# Altium footprint library TPS53313.PcbLib: 1 footprints
Each footprint in its own frame and in the unit in brackets; x right, y up, seen from the top. Pads: shape width x height; smd on the part's side, far side on the other; paste and mask are expansions set on the pad; w line width, h text height; cw(c..) or ccw(c..) is an arc to the next point about the centre after c.
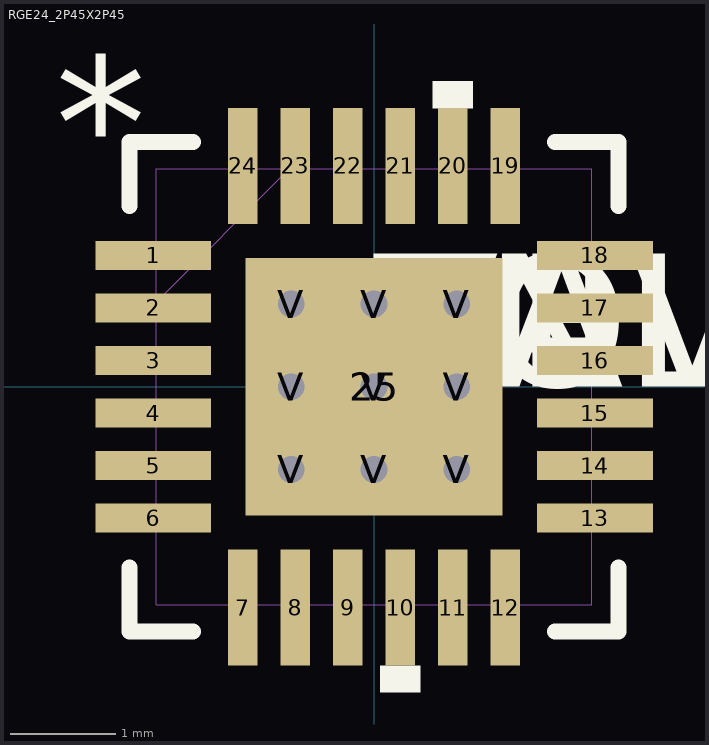
[diagram p0: the footprint, top view; thin cyan lines are the x and y axes]

## RGE24_2P45X2P45 [mil]
pads (34):
  rect 43.47x11.02 smd paste-5.51: 1(-82.76,49.21) 2(-82.76,29.53) 3(-82.76,9.84) 4(-82.76,-9.84) 5(-82.76,-29.53) 6(-82.76,-49.21) 13(82.76,-49.21) 14(82.76,-29.53) 15(82.76,-9.84) 16(82.76,9.84) 17(82.76,29.53) 18(82.76,49.21)
  rect 11.02x43.47 smd paste-5.51: 7(-49.23,-82.76) 8(-29.54,-82.76) 9(-9.85,-82.76) 10(9.85,-82.76) 11(29.54,-82.76) 12(49.23,-82.76) 19(49.23,82.76) 20(29.54,82.76) 21(9.85,82.76) 22(-9.85,82.76) 23(-29.54,82.76) 24(-49.23,82.76)
  rect 96.46x96.46 smd paste-47.73 mask-47.5: 25(0,0)
  round 20 / inner round 60 / far side round 20 hole 10: V(-31,-31) V(-31,0) V(-31,31) V(0,-31) V(0,0) V(0,31) V(31,-31) V(31,0) V(31,31)
Top Overlay:
  region: 37.03,104.49 22.04,104.49 22.04,114.49 37.03,114.49
  region: 17.34,-104.49 2.35,-104.49 2.35,-114.49 17.34,-114.49
  lines w6: -91.69,-67.82 -91.69,-91.69 -67.84,-91.69 ; -91.69,67.82 -91.69,91.69 -67.84,91.69 ; 67.84,-91.69 91.69,-91.69 91.69,-67.82 ; 67.84,91.69 91.69,91.69 91.69,67.82
  text "TOL" at 0,0 h50
  text "VAL" at 0,0 h50
  text "DEV" at 0,0 h50
  text "PN" at 0,0 h50
  text "*" at -119.49,74.06 h50
Top Paste:
  drawing of 40 lines, arcs and shapes, not listed
Top Solder:
  region: 38.87,-50.73 38.87,50.73 50.73,50.73 50.73,-50.73
  region: 23.13,-50.73 23.13,50.73 7.87,50.73 7.87,-50.73
  region: -7.87,-50.73 -7.87,50.73 -23.13,50.73 -23.13,-50.73
  region: -50.73,-50.73 -50.73,50.73 -38.87,50.73 -38.87,-50.73
  region: -50.73,-50.73 -50.73,-38.87 50.73,-38.87 50.73,-50.73
  region: -50.73,-23.13 -50.73,-7.87 50.73,-7.87 50.73,-23.13
  region: -50.73,7.87 -50.73,23.13 50.73,23.13 50.73,7.87
  region: -50.73,38.87 -50.73,50.73 50.73,50.73 50.73,38.87
  region: -40.97,97.23 -57.48,97.23 -57.48,58.28 -40.97,58.28
  region: -21.28,97.23 -37.79,97.23 -37.79,58.28 -21.28,58.28
  region: -1.59,97.23 -18.1,97.23 -18.1,58.28 -1.59,58.28
  region: 18.1,97.23 1.59,97.23 1.59,58.28 18.1,58.28
  region: 37.79,97.23 21.28,97.23 21.28,58.28 37.79,58.28
  region: 57.48,97.23 40.97,97.23 40.97,58.28 57.48,58.28
  region: 97.23,57.46 58.28,57.46 58.28,40.96 97.23,40.96
  region: 97.23,37.78 58.28,37.78 58.28,21.28 97.23,21.28
  region: 97.23,18.09 58.28,18.09 58.28,1.59 97.23,1.59
  region: 97.23,-1.59 58.28,-1.59 58.28,-18.09 97.23,-18.09
  region: 97.23,-21.28 58.28,-21.28 58.28,-37.78 97.23,-37.78
  region: 97.23,-40.96 58.28,-40.96 58.28,-57.46 97.23,-57.46
  region: 57.48,-58.28 40.97,-58.28 40.97,-97.23 57.48,-97.23
  region: 37.79,-58.28 21.28,-58.28 21.28,-97.23 37.79,-97.23
  region: 18.1,-58.28 1.59,-58.28 1.59,-97.23 18.1,-97.23
  region: -1.59,-58.28 -18.1,-58.28 -18.1,-97.23 -1.59,-97.23
  region: -21.28,-58.28 -37.79,-58.28 -37.79,-97.23 -21.28,-97.23
  region: -40.97,-58.28 -57.48,-58.28 -57.48,-97.23 -40.97,-97.23
  region: -58.28,-40.96 -97.23,-40.96 -97.23,-57.46 -58.28,-57.46
  region: -58.28,-21.28 -97.23,-21.28 -97.23,-37.78 -58.28,-37.78
  region: -58.28,-1.59 -97.23,-1.59 -97.23,-18.09 -58.28,-18.09
  region: -58.28,18.09 -97.23,18.09 -97.23,1.59 -58.28,1.59
  region: -58.28,37.78 -97.23,37.78 -97.23,21.28 -58.28,21.28
  region: -58.28,57.46 -97.23,57.46 -97.23,40.96 -58.28,40.96
Mechanical 1:
  lines w0: -81.69,31.69 -31.69,81.69 ; -81.69,-81.69 -81.69,81.69 81.69,81.69 81.69,-81.69 -81.69,-81.69 ; -81.69,-55.12 -81.69,-43.31 -81.69,-55.12 ; -81.69,-35.43 -81.69,-23.62 -81.69,-35.43 ; -81.69,-15.75 -81.69,-3.94 -81.69,-15.75 ; -81.69,3.94 -81.69,15.75 -81.69,3.94 ; -81.69,23.62 -81.69,35.43 -81.69,23.62 ; -81.69,43.31 -81.69,55.12 -81.69,43.31 ; -55.12,-81.69 -43.31,-81.69 -55.12,-81.69 ; -55.12,81.69 -43.31,81.69 -55.12,81.69 ; -35.43,-81.69 -23.62,-81.69 -35.43,-81.69 ; -35.43,81.69 -23.62,81.69 -35.43,81.69 ; -15.75,-81.69 -3.94,-81.69 -15.75,-81.69 ; -15.75,81.69 -3.94,81.69 -15.75,81.69 ; 3.94,-81.69 15.75,-81.69 3.94,-81.69 ; 3.94,81.69 15.75,81.69 3.94,81.69 ; 23.62,-81.69 35.43,-81.69 23.62,-81.69 ; 23.62,81.69 35.43,81.69 23.62,81.69 ; 43.31,-81.69 55.12,-81.69 43.31,-81.69 ; 43.31,81.69 55.12,81.69 43.31,81.69 ; 81.69,-55.12 81.69,-43.31 81.69,-55.12 ; 81.69,-35.43 81.69,-23.62 81.69,-35.43 ; 81.69,-15.75 81.69,-3.94 81.69,-15.75 ; 81.69,3.94 81.69,15.75 81.69,3.94 ; 81.69,23.62 81.69,35.43 81.69,23.62 ; 81.69,43.31 81.69,55.12 81.69,43.31
  text "RefDes2" at 0,0 h50
  text "*" at -119.49,74.06 h50